# Altium footprint library TMS320F28335GF.PcbLib: 40 footprints (part 1 of 3)
Each footprint in its own frame and in the unit in brackets; x right, y up, seen from the top. Pads: shape width x height; smd on the part's side, far side on the other; paste and mask are expansions set on the pad; w line width, h text height; cw(c..) or ccw(c..) is an arc to the next point about the centre after c.
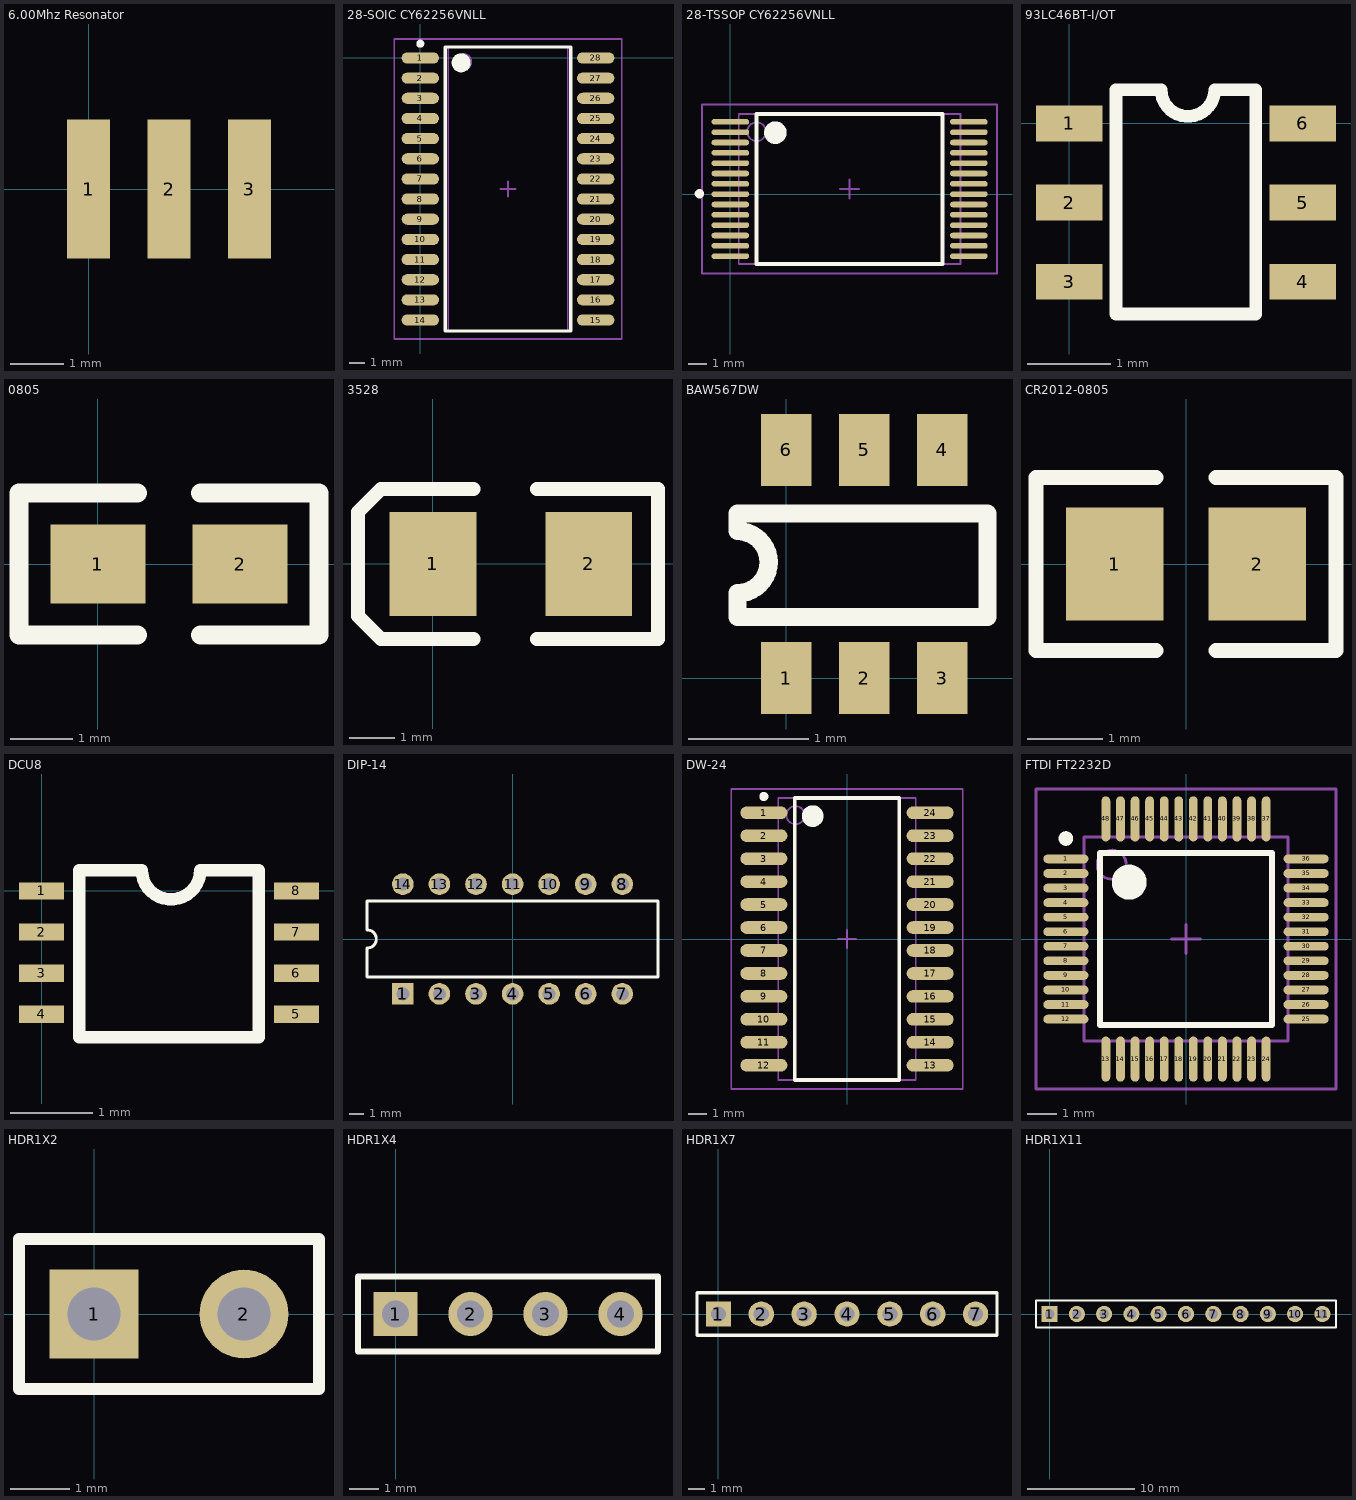
[diagram p0: the footprints below, top view; thin cyan lines are the x and y axes]

## 6.00Mhz Resonator [mm]
pads (3):
  rect 0.8x2.6 smd: 1(0,0) 2(1.5,0) 3(3,0)

## 28-SOIC CY62256VNLL [mm]
pads (28):
  oval 2.35x0.7 smd: 1(0,0) 2(0,-1.27) 3(0,-2.54) 4(0,-3.81) 5(0,-5.08) 6(0,-6.35) 7(0,-7.62) 8(0,-8.89) 9(0,-10.16) 10(0,-11.43) 11(0,-12.7) 12(0,-13.97) 13(0,-15.24) 14(0,-16.51) 15(11.05,-16.51) 16(11.05,-15.24) 17(11.05,-13.97) 18(11.05,-12.7) 19(11.05,-11.43) 20(11.05,-10.16) 21(11.05,-8.89) 22(11.05,-7.62) 23(11.05,-6.35) 24(11.05,-5.08) 25(11.05,-3.81) 26(11.05,-2.54) 27(11.05,-1.27) 28(11.05,0)
Top Overlay:
  circle w0.25: c0,0.9 r0.125
  circle w0.6: c2.575,-0.305 r0.3
  lines w0.2: 1.575,-17.205 1.575,0.695 9.475,0.695 9.475,-17.205 1.575,-17.205
Mechanical 13:
  circle w0.1: c2.72,-0.24 r0.5
  lines w0.1: 1.77,-17.22 1.77,0.71 9.28,0.71 9.28,-17.22 1.77,-17.22
Mechanical 15:
  lines w0.1: 5.025,-8.255 6.025,-8.255 ; 5.525,-8.755 5.525,-7.755 ; -1.65,-17.705 -1.65,1.195 12.7,1.195 12.7,-17.705 -1.65,-17.705
3D body: height 2.59, standoff 0.25, extent 1.77,-17.22 9.28,0.71

## 28-TSSOP CY62256VNLL [mm]
pads (28):
  oval 2x0.3 smd: 1(0,0) 2(0,-0.55) 3(0,-1.1) 4(0,-1.65) 5(0,-2.2) 6(0,-2.75) 7(0,-3.3) 8(12.7,-3.3) 9(12.7,-2.75) 10(12.7,-2.2) 11(12.7,-1.65) 12(12.7,-1.1) 13(12.7,-0.55) 14(12.7,0) 15(12.7,0.55) 16(12.7,1.1) 17(12.7,1.65) 18(12.7,2.2) 19(12.7,2.75) 20(12.7,3.3) 21(12.7,3.85) 22(0,3.85) 23(0,3.3) 24(0,2.75) 25(0,2.2) 26(0,1.65) 27(0,1.1) 28(0,0.55)
Top Overlay:
  circle w0.25: c-1.649,0.021 r0.125
  circle w0.6: c2.4,3.275 r0.3
  lines w0.2: 1.4,-3.725 1.4,4.275 11.3,4.275 11.3,-3.725 1.4,-3.725
Mechanical 13:
  circle w0.1: c1.4,3.325 r0.5
  lines w0.1: 0.45,-3.725 0.45,4.275 12.25,4.275 12.25,-3.725 0.45,-3.725
Mechanical 15:
  lines w0.1: 5.85,0.275 6.85,0.275 ; 6.35,-0.225 6.35,0.775 ; -1.5,-4.225 -1.5,4.775 14.2,4.775 14.2,-4.225 -1.5,-4.225
3D body: height 1.1, standoff 0.16, extent 0.45,-3.725 12.25,4.275

## 93LC46BT-I/OT [mm]
pads (6):
  rect 0.8x0.43 smd: 1(0,0) 2(0,-0.95) 3(0,-1.9) 4(2.8,-1.9) 5(2.8,-0.95) 6(2.8,0)
Top Overlay:
  lines w0.152: 0.559,-2.286 2.235,-2.286 2.235,0.406 1.744,0.406 cw(c1.422,0.406) 1.101,0.406 0.559,0.406 0.559,-2.286

## 0805 [mil]
pads (2):
  rect 60x50 smd: 1(0,0) 2(90,0)
Top Overlay:
  lines w12: 25,-45 -50,-45 -50,45 25,45 ; 65,-45 140,-45 140,45 65,45

## 3528 [mil]
pads (2):
  rect 75x90 smd: 1(0,0) 2(135,0)
Top Overlay:
  lines w12: 35,-65 -45,-65 -65,-45 -65,45 -45,65 35,65 ; 90,-65 195,-65 195,65 90,65

## BAW567DW [mm]
pads (6):
  rect 0.42x0.6 smd: 1(0,0) 2(0.65,0) 3(1.3,0) 4(1.3,1.9) 5(0.65,1.9) 6(0,1.9)
Top Overlay:
  lines w0.152: -0.406,0.508 1.676,0.508 1.676,1.372 -0.406,1.372 -0.406,1.224 cw(c-0.406,0.965) -0.147,0.965 cw(c-0.406,0.965) -0.406,0.706 -0.406,0.508
  text "." at -0.66,0 h0.76

## CR2012-0805 [mm]
pads (2):
  rect 1.3x1.5 smd: 1(-0.95,0) 2(0.95,0)
Top Overlay:
  lines w0.2: -0.4,-1.15 -2,-1.15 -2,1.15 -0.4,1.15 ; 0.4,-1.15 2,-1.15 2,1.15 0.4,1.15

## DCU8 [mm]
pads (8):
  rect 0.55x0.21 smd: 1(0,0) 2(0,-0.5) 3(0,-1) 4(0,-1.5) 5(3.1,-1.5) 6(3.1,-1) 7(3.1,-0.5) 8(3.1,0)
Top Overlay:
  lines w0.152: 0.457,-1.778 2.642,-1.778 2.642,0.254 1.93,0.254 cw(c1.575,0.254) 1.219,0.254 0.457,0.254 0.457,-1.778
  text "." at 0,0.457 h0.76

## DIP-14 [mm]
pads (14):
  rect 1.5x1.5 hole 0.9: 1(-7.62,-3.81)
  round 1.5 hole 0.9: 2(-5.08,-3.81) 3(-2.54,-3.81) 4(0,-3.81) 5(2.54,-3.81) 6(5.08,-3.81) 7(7.62,-3.81) 8(7.62,3.81) 9(5.08,3.81) 10(2.54,3.81) 11(0,3.81) 12(-2.54,3.81) 13(-5.08,3.81) 14(-7.62,3.81)
Top Overlay:
  lines w0.2: -10.1,-2.65 -10.1,-0.635 ccw(c-10.1,0) -10.1,0.635 -10.1,2.65 10.1,2.65 10.1,-2.65 -10.1,-2.65

## DW-24 [mm]
pads (24):
  oval 2.6x0.7 smd: 1(-4.6,6.985) 2(-4.6,5.715) 3(-4.6,4.445) 4(-4.6,3.175) 5(-4.6,1.905) 6(-4.6,0.635) 7(-4.6,-0.635) 8(-4.6,-1.905) 9(-4.6,-3.175) 10(-4.6,-4.445) 11(-4.6,-5.715) 12(-4.6,-6.985) 13(4.6,-6.985) 14(4.6,-5.715) 15(4.6,-4.445) 16(4.6,-3.175) 17(4.6,-1.905) 18(4.6,-0.635) 19(4.6,0.635) 20(4.6,1.905) 21(4.6,3.175) 22(4.6,4.445) 23(4.6,5.715) 24(4.6,6.985)
Top Overlay:
  circle w0.25: c-4.6,7.885 r0.125
  circle w0.6: c-1.9,6.8 r0.3
  lines w0.2: -2.9,-7.8 -2.9,7.8 2.9,7.8 2.9,-7.8 -2.9,-7.8
Mechanical 13:
  circle w0.1: c-2.85,6.85 r0.5
  lines w0.1: -3.8,-7.8 -3.8,7.8 3.8,7.8 3.8,-7.8 -3.8,-7.8
Mechanical 15:
  lines w0.1: -0.5,0 0.5,0 ; 0,-0.5 0,0.5 ; -6.4,-8.3 -6.4,8.3 6.4,8.3 6.4,-8.3 -6.4,-8.3
3D body: height 2.65, standoff 0.25, extent -3.8,-7.8 3.8,7.8

## FTDI FT2232D [mm]
pads (48):
  oval 1.55x0.3 smd: 1(-4.125,2.75) 2(-4.125,2.25) 3(-4.125,1.75) 4(-4.125,1.25) 5(-4.125,0.75) 6(-4.125,0.25) 7(-4.125,-0.25) 8(-4.125,-0.75) 9(-4.125,-1.25) 10(-4.125,-1.75) 11(-4.125,-2.25) 12(-4.125,-2.75) 25(4.125,-2.75) 26(4.125,-2.25) 27(4.125,-1.75) 28(4.125,-1.25) 29(4.125,-0.75) 30(4.125,-0.25) 31(4.125,0.25) 32(4.125,0.75) 33(4.125,1.25) 34(4.125,1.75) 35(4.125,2.25) 36(4.125,2.75)
  oval 0.3x1.55 smd: 13(-2.75,-4.125) 14(-2.25,-4.125) 15(-1.75,-4.125) 16(-1.25,-4.125) 17(-0.75,-4.125) 18(-0.25,-4.125) 19(0.25,-4.125) 20(0.75,-4.125) 21(1.25,-4.125) 22(1.75,-4.125) 23(2.25,-4.125) 24(2.75,-4.125) 37(2.75,4.125) 38(2.25,4.125) 39(1.75,4.125) 40(1.25,4.125) 41(0.75,4.125) 42(0.25,4.125) 43(-0.25,4.125) 44(-0.75,4.125) 45(-1.25,4.125) 46(-1.75,4.125) 47(-2.25,4.125) 48(-2.75,4.125)
Top Overlay:
  circle w0.25: c-4.125,3.45 r0.125
  circle w0.6: c-1.95,1.95 r0.3
  lines w0.2: -2.95,-2.95 -2.95,2.95 2.95,2.95 2.95,-2.95 -2.95,-2.95
Mechanical 13:
  circle w0.1: c-2.55,2.55 r0.5
  lines w0.1: -3.5,-3.5 -3.5,3.5 3.5,3.5 3.5,-3.5 -3.5,-3.5
Mechanical 15:
  lines w0.1: -0.5,0 0.5,0 ; 0,-0.5 0,0.5 ; -5.15,-5.15 -5.15,5.15 5.15,5.15 5.15,-5.15 -5.15,-5.15
3D body: height 1.6, standoff 0.15, extent -3.5,-3.5 3.5,3.5

## HDR1X2 [mm]
pads (2):
  rect 1.5x1.5 hole 0.9: 1(0,0)
  round 1.5 hole 0.9: 2(2.54,0)
Top Overlay:
  lines w0.2: -1.27,-1.27 3.81,-1.27 3.81,1.27 -1.27,1.27 -1.27,-1.27

## HDR1X4 [mm]
pads (4):
  rect 1.5x1.5 hole 0.9: 1(0,0)
  round 1.5 hole 0.9: 2(2.54,0) 3(5.08,0) 4(7.62,0)
Top Overlay:
  lines w0.2: -1.27,-1.27 -1.27,1.27 8.89,1.27 8.89,-1.27 -1.27,-1.27

## HDR1X7 [mm]
pads (7):
  rect 1.5x1.5 hole 0.9: 1(0,0)
  round 1.5 hole 0.9: 2(2.54,0) 3(5.08,0) 4(7.62,0) 5(10.16,0) 6(12.7,0) 7(15.24,0)
Top Overlay:
  lines w0.2: -1.27,-1.27 -1.27,1.27 16.51,1.27 16.51,-1.27 -1.27,-1.27

## HDR1X11 [mm]
pads (11):
  rect 1.5x1.5 hole 0.9: 1(0,0)
  round 1.5 hole 0.9: 2(2.54,0) 3(5.08,0) 4(7.62,0) 5(10.16,0) 6(12.7,0) 7(15.24,0) 8(17.78,0) 9(20.32,0) 10(22.86,0) 11(25.4,0)
Top Overlay:
  lines w0.2: -1.27,-1.27 -1.27,1.27 0.635,1.27 26.67,1.27 26.67,-1.27 -1.27,-1.27